# EAGLE library part BME68X (library FlashPCB_Sensors)
BME680 - Gas, Humidity, Pressure, Temperature Sensor IÃƒÆ’Ã¢â‚¬Å¡Ãƒâ€šÃ‚Â²C, SPI Output (BME688 includes odor detection) Technical Specifications: Humidity accuracy:+/-3%r.H. RMS Noise: .12pa Component Search: [DATA SHEET NAME] <[FLASHPCB URL]> Datasheet: BME680 <https://www.bosch-sensortec.com/media/boschsensortec/downloads/datasheets/bst-bme680-ds001.pdf>
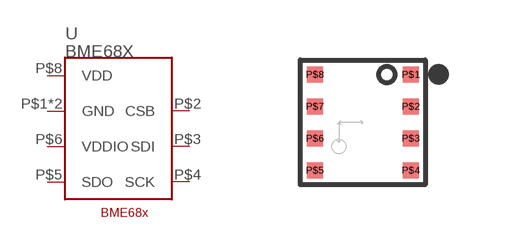
[diagram p6: symbol with the pads of BME68X; footprint BME68X]

Designator prefix U

## BME68X  [BME68X]
P$1  GND  pwr
P$2  CSB  in
P$3  SDI
P$4  SCK  in
P$5  SDO
P$6  VDDIO  pwr
P$7  GND  pwr
P$8  VDD  pwr

## Footprint BME68X (pad centres in mm)
smd 0.4 x 0.4: P$1 1.2,1.2; P$2 1.2,0.4; P$3 1.2,-0.4; P$4 1.2,-1.2; P$5 -1.2,-1.2; P$6 -1.2,-0.4; P$7 -1.2,0.4; P$8 -1.2,1.2